# EAGLE library part USB-B (library USBtiny-Lirc)
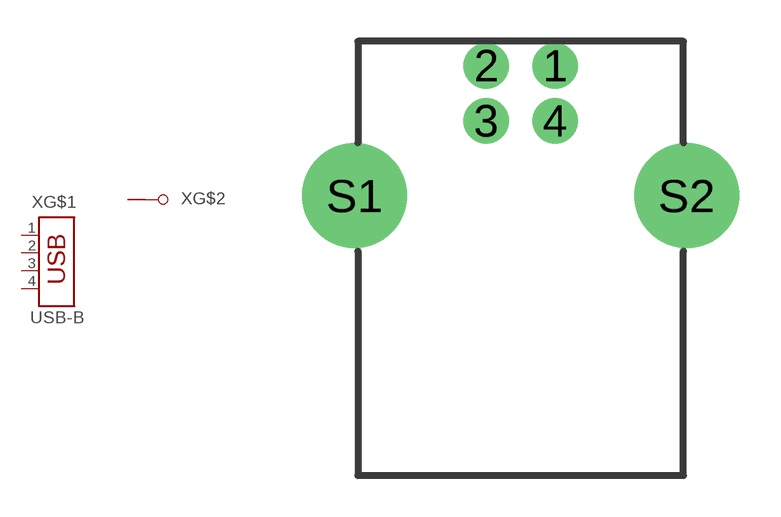
[diagram p3: symbol with the pads of USB-B; footprint USB-B]

Designator prefix X; gates G$2=GND G$1=USB-4

## USB-BB  [USB-B]
1  G$1:1  pas
2  G$1:2  pas
3  G$1:3  pas
4  G$1:4  pas
S1  G$2:G1  pas
S2  G$2:G2  pas

## Footprint USB-B (pad centres in mm)
USB connector with shield
drill 1.1 round: 1 1.25,4.71; 2 -1.25,4.71; 3 -1.25,2.71; 4 1.25,2.71
drill 2.3 pad 3.81 round: S1 -6.02,0; S2 6.02,0